# EAGLE library part TMC261-PA (library trinamic)
TRINAMIC Energy Efficient Microstep Driver for up to 1.7A with coolStep™ Information given in this library is believed to be accurate and reliable. However no warranty is given for its correctness. Datasheet for TMC260/261/262 <http://www.trinamic.com/tmc/media/Downloads/integrated_circuits/TMC262/TMC260_TMC261_TMC262_datasheet.pdf> Description Energy Efficient Microstep Driver for up to 1.7A with coolStep™ The TMC260 is the first energy efficient high precision microstepping driver IC for bipolar stepper motors with integrated power MOSFETs. The unique high resolution sensorless load detection stallGuard2™ is used to for the world™s first integrated load dependent current control feature called coolStep™. The ability to read out the load and detect an overload makes the TMC260 an optimum choice for drives where a high reliability is desired at a low cost. The new patented spreadCycle PWM mixed decay chopper scheme ensures best zero crossing performance as well as high speed operation. The TMC260 can be driven with Step & Direction signals as well as by serial SPI™ interface. Using the microPlyer allows to operate the motor with highest 256 ™Step smoothness reducing the input frequency to 16 ™Steps. A full set of protection and diagnostic features makes this device very rugged. It directly drives stepper motors with up to 1.7A. This way it reaches highest energy efficiency and allows driving of a high motor current without cooling measures even at high environment temperatures. Specifications Main characteristics 2-phase bipolar stepper motor driver stallGuard2™ sensorless load detection coolStep™ load dependent current control save up to 80% energy spreadCycle hysteresis PWM chopper best current zero crossing performance best sine wave form 256 ™Steps/fullstep (51200 pos/rev.) with a standard 200 step motor microPlyer 16-to-256 ™Step multiplyer full protection and diagnostics lowest power dissipation programmable slope control for low EME standby and shutdown mode stall / load detection output Low power consumption via low RDS-ON power stage Interface Step & Direction easy-to-use SPI™ (20bit) Electrical Data up to 1.7A coil current (peak) 9V to 60V motor supply 3.3V or 5V operation for digital part Package TQFP44 10x10 mm² package RoHS compliant
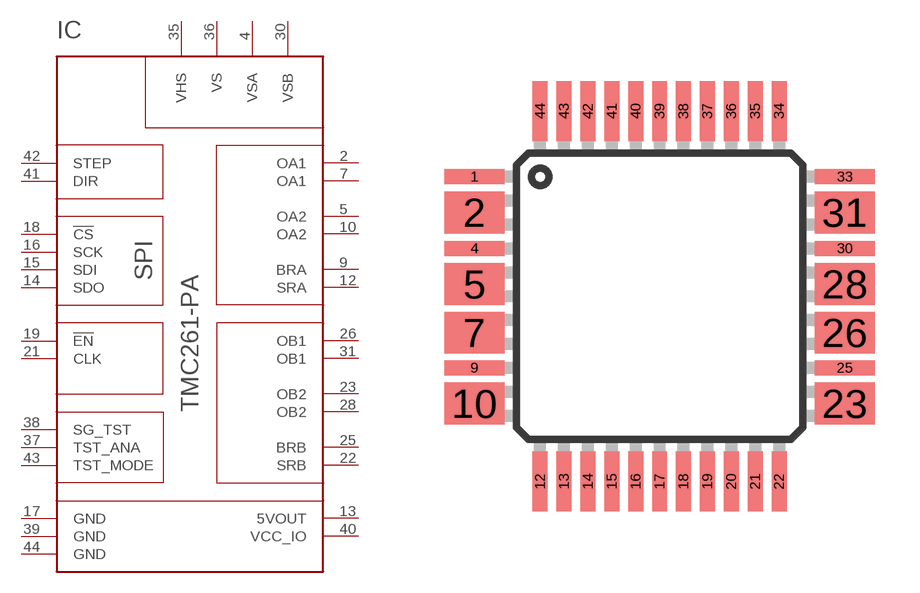
[diagram p3: symbol with the pads of PQFP44_WITH_PADS; footprint PQFP44_WITH_PADS]

Designator prefix IC

## TMC261-PA  [PQFP44_WITH_PADS]
2  OA1  out
4  VSA  in
5  OA2  out
7  OA1  out
9  BRA  in
10  OA2  out
12  SRA  in
13  5VOUT  out
14  SDO  hiz
15  SDI  in
16  SCK  in
17  GND  in
18  !CS  in
19  !EN  in
21  CLK  in
22  SRB  in
23  OB2  out
25  BRB  in
26  OB1  out
28  OB2  out
30  VSB  in
31  OB1  out
35  VHS  in
36  VS  in
37  TST_ANA  out
38  SG_TST  out
39  GND  in
40  VCC_IO  in
41  DIR  in
42  STEP  in
43  TST_MODE  in
44  GND  in

## Footprint PQFP44_WITH_PADS (pad centres in mm)
smd 2 x 0.5: 1 -6.327,4.254; 4 -6.327,1.854; 9 -6.327,-2.146; 25 6.073,-2.146; 30 6.073,1.854; 33 6.073,4.254
smd 2 x 1.4: 2 -6.327,3.06; 5 -6.327,0.66; 7 -6.327,-0.965; 10 -6.327,-3.34; 23 6.073,-3.34; 26 6.073,-0.965; 28 6.073,0.66; 31 6.073,3.06
smd 0.5 x 2: 12 -4.127,-5.946; 13 -3.327,-5.946; 14 -2.527,-5.946; 15 -1.727,-5.946; 16 -0.927,-5.946; 17 -0.127,-5.946; 18 0.673,-5.946; 19 1.473,-5.946; 20 2.273,-5.946; 21 3.073,-5.946; 22 3.873,-5.946; 34 3.873,6.454; 35 3.073,6.454; 36 2.273,6.454; 37 1.473,6.454; 38 0.673,6.454; 39 -0.127,6.454; 40 -0.927,6.454; 41 -1.727,6.454; 42 -2.527,6.454; 43 -3.327,6.454; 44 -4.127,6.454